# EAGLE library part EPF10K200-PGA599 (library altera)
EPF10K200 FLEX 10K family
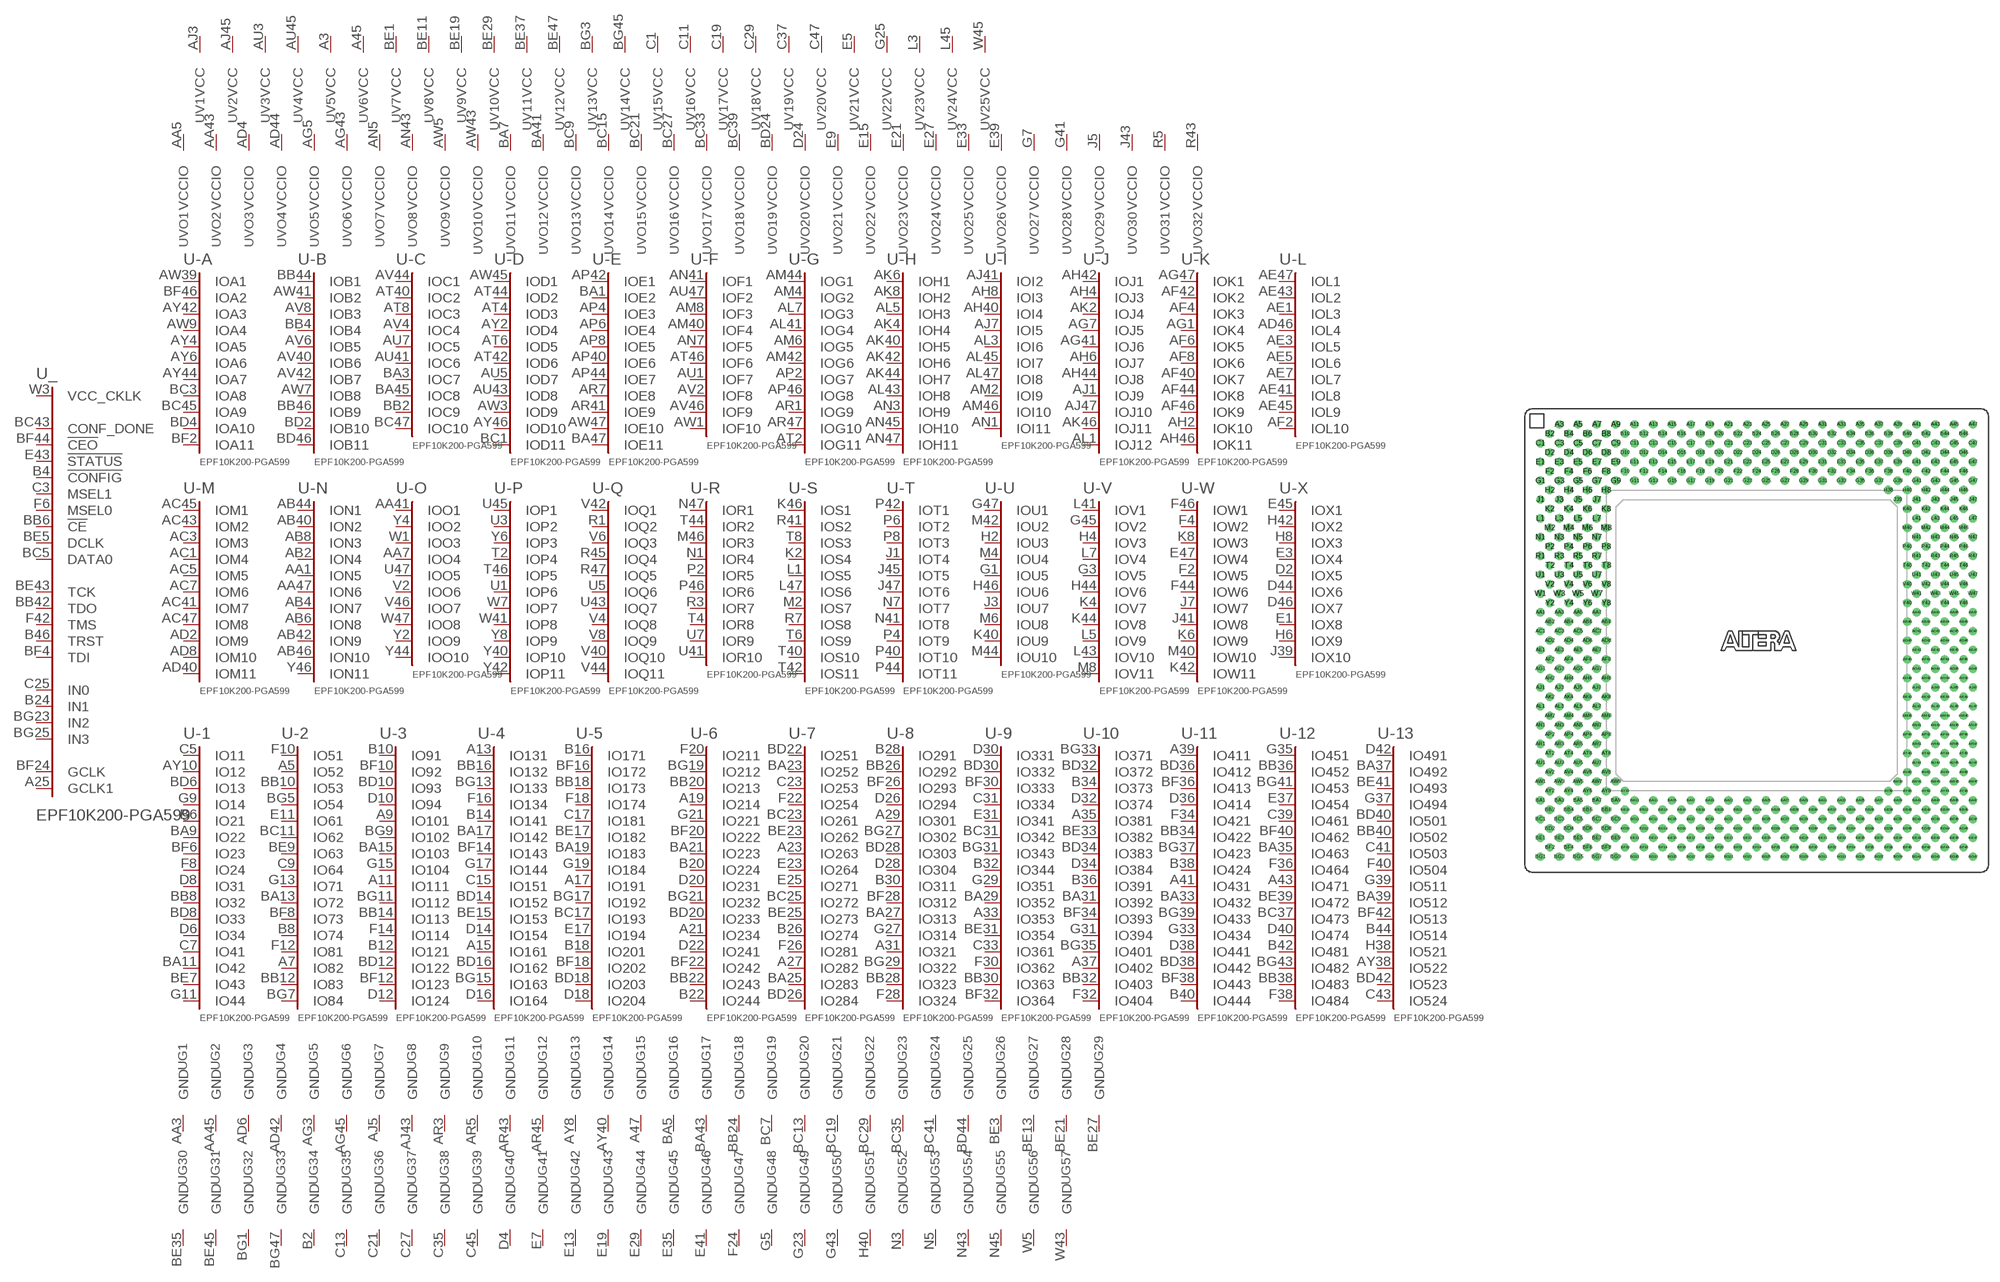
[diagram p34: symbol with the pads of PGA599; footprint PGA599]

Designator prefix U; gates _=200P599C -A=A11-599 -B=B11-599 -C=C10-599 -D=D11-599 -E=E11-599 -F=F10-599 -G=G11-599 -H=H11-599 -I=I11-599 -J=J12-599 -K=K11-599 -L=L10-599 -M=M11-599 -N=N11-599 -O=O10-599 -P=P11-599 -Q=Q11-599 -R=R10-599 -S=S11-599 -T=T11-599 -U=U10-599 -V=V11-599 -W=W11-599 -X=X10-599 -1=IO44 -2=IO84 -3=IO124 -4=IO164 -5=IO204 -6=IO244 -7=IO284 -8=IO324 -9=IO364 -10=IO404 -11=IO444 -12=IO484 -13=IO524 G1=GND G2=GND G3=GND G4=GND G5=GND G6=GND G7=GND G8=GND G9=GND G10=GND G11=GND G12=GND G13=GND G14=GND G15=GND G16=GND G17=GND G18=GND G19=GND G20=GND G21=GND G22=GND G23=GND G24=GND G25=GND G26=GND G27=GND G28=GND G29=GND G30=GND G31=GND G32=GND G33=GND G34=GND G35=GND G36=GND G37=GND G38=GND G39=GND G40=GND G41=GND G42=GND G43=GND G44=GND G45=GND G46=GND G47=GND G48=GND G49=GND G50=GND G51=GND G52=GND G53=GND G54=GND G55=GND G56=GND G57=GND V1=VCCINT V2=VCCINT V3=VCCINT V4=VCCINT V5=VCCINT V6=VCCINT V7=VCCINT V8=VCCINT V9=VCCINT V10=VCCINT V11=VCCINT V12=VCCINT V13=VCCINT V14=VCCINT V15=VCCINT V16=VCCINT V17=VCCINT V18=VCCINT V19=VCCINT V20=VCCINT V21=VCCINT V22=VCCINT V23=VCCINT V24=VCCINT V25=VCCINT VO1=VCCIO VO2=VCCIO VO3=VCCIO VO4=VCCIO VO5=VCCIO VO6=VCCIO VO7=VCCIO VO8=VCCIO VO9=VCCIO VO10=VCCIO VO11=VCCIO VO12=VCCIO VO13=VCCIO VO14=VCCIO VO15=VCCIO VO16=VCCIO VO17=VCCIO VO18=VCCIO VO19=VCCIO VO20=VCCIO VO21=VCCIO VO22=VCCIO VO23=VCCIO VO24=VCCIO VO25=VCCIO VO26=VCCIO VO27=VCCIO VO28=VCCIO VO29=VCCIO VO30=VCCIO VO31=VCCIO VO32=VCCIO

## EPF10K200-PGA599  [PGA599]
A3  V5:VCC  pwr
A5  -2:IO52
A7  -2:IO82
A9  -3:IO101
A11  -3:IO111
A13  -4:IO131
A15  -4:IO161
A17  -5:IO191
A19  -6:IO214
A21  -6:IO234
A23  -7:IO263
A25  _:GCLK1  in
A27  -7:IO282
A29  -8:IO301
A31  -8:IO321
A33  -9:IO353
A35  -10:IO381
A37  -10:IO402
A39  -11:IO411
A41  -11:IO431
A43  -12:IO471
A45  V6:VCC  pwr
A47  G15:GND  pwr
AA1  -N:ION5
AA3  G1:GND  pwr
AA5  VO1:VCCIO  pwr
AA7  -O:IOO4
AA41  -O:IOO1
AA43  VO2:VCCIO  pwr
AA45  G2:GND  pwr
AA47  -N:ION6
AB2  -N:ION4
AB4  -N:ION7
AB6  -N:ION8
AB8  -N:ION3
AB40  -N:ION2
AB42  -N:ION9
AB44  -N:ION1
AB46  -N:ION10
AC1  -M:IOM4
AC3  -M:IOM3
AC5  -M:IOM5
AC7  -M:IOM6
AC41  -M:IOM7
AC43  -M:IOM2
AC45  -M:IOM1
AC47  -M:IOM8
AD2  -M:IOM9
AD4  VO3:VCCIO  pwr
AD6  G3:GND  pwr
AD8  -M:IOM10
AD40  -M:IOM11
AD42  G4:GND  pwr
AD44  VO4:VCCIO  pwr
AD46  -L:IOL4
AE1  -L:IOL3
AE3  -L:IOL5
AE5  -L:IOL6
AE7  -L:IOL7
AE41  -L:IOL8
AE43  -L:IOL2
AE45  -L:IOL9
AE47  -L:IOL1
AF2  -L:IOL10
AF4  -K:IOK3
AF6  -K:IOK5
AF8  -K:IOK6
AF40  -K:IOK7
AF42  -K:IOK2
AF44  -K:IOK8
AF46  -K:IOK9
AG1  -K:IOK4
AG3  G5:GND  pwr
AG5  VO5:VCCIO  pwr
AG7  -J:IOJ5
AG41  -J:IOJ6
AG43  VO6:VCCIO  pwr
AG45  G6:GND  pwr
AG47  -K:IOK1
AH2  -K:IOK10
AH4  -J:IOJ3
AH6  -J:IOJ7
AH8  -I:IOI3
AH40  -I:IOI4
AH42  -J:IOJ1
AH44  -J:IOJ8
AH46  -K:IOK11
AJ1  -J:IOJ9
AJ3  V1:VCC  pwr
AJ5  G7:GND  pwr
AJ7  -I:IOI5
AJ41  -I:IOI2
AJ43  G8:GND  pwr
AJ45  V2:VCC  pwr
AJ47  -J:IOJ10
AK2  -J:IOJ4
AK4  -H:IOH4
AK6  -H:IOH1
AK8  -H:IOH2
AK40  -H:IOH5
AK42  -H:IOH6
AK44  -H:IOH7
AK46  -J:IOJ11
AL1  -J:IOJ12
AL3  -I:IOI6
AL5  -H:IOH3
AL7  -G:IOG3
AL41  -G:IOG4
AL43  -H:IOH8
AL45  -I:IOI7
AL47  -I:IOI8
AM2  -I:IOI9
AM4  -G:IOG2
AM6  -G:IOG5
AM8  -F:IOF3
AM40  -F:IOF4
AM42  -G:IOG6
AM44  -G:IOG1
AM46  -I:IOI10
AN1  -I:IOI11
AN3  -H:IOH9
AN5  VO7:VCCIO  pwr
AN7  -F:IOF5
AN41  -F:IOF1
AN43  VO8:VCCIO  pwr
AN45  -H:IOH10
AN47  -H:IOH11
AP2  -G:IOG7
AP4  -E:IOE3
AP6  -E:IOE4
AP8  -E:IOE5
AP40  -E:IOE6
AP42  -E:IOE1
AP44  -E:IOE7
AP46  -G:IOG8
AR1  -G:IOG9
AR3  G9:GND  pwr
AR5  G10:GND  pwr
AR7  -E:IOE8
AR41  -E:IOE9
AR43  G11:GND  pwr
AR45  G12:GND  pwr
AR47  -G:IOG10
AT2  -G:IOG11
AT4  -D:IOD3
AT6  -D:IOD5
AT8  -C:IOC3
AT40  -C:IOC2
AT42  -D:IOD6
AT44  -D:IOD2
AT46  -F:IOF6
AU1  -F:IOF7
AU3  V3:VCC  pwr
AU5  -D:IOD7
AU7  -C:IOC5
AU41  -C:IOC6
AU43  -D:IOD8
AU45  V4:VCC  pwr
AU47  -F:IOF2
AV2  -F:IOF8
AV4  -C:IOC4
AV6  -B:IOB5
AV8  -B:IOB3
AV40  -B:IOB6
AV42  -B:IOB7
AV44  -C:IOC1
AV46  -F:IOF9
AW1  -F:IOF10
AW3  -D:IOD9
AW5  VO9:VCCIO  pwr
AW7  -B:IOB8
AW9  -A:IOA4
AW39  -A:IOA1
AW41  -B:IOB2
AW43  VO10:VCCIO  pwr
AW45  -D:IOD1
AW47  -E:IOE10
AY2  -D:IOD4
AY4  -A:IOA5
AY6  -A:IOA6
AY8  G13:GND  pwr
AY10  -1:IO12
AY38  -13:IO522
AY40  G14:GND  pwr
AY42  -A:IOA3
AY44  -A:IOA7
AY46  -D:IOD10
B2  G34:GND  pwr
B4  _:!CONFIG!  in
B6  -1:IO21
B8  -2:IO74
B10  -3:IO91
B12  -3:IO121
B14  -4:IO141
B16  -5:IO171
B18  -5:IO201
B20  -6:IO224
B22  -6:IO244
B24  _:IN1  in
B26  -7:IO274
B28  -8:IO291
B30  -8:IO311
B32  -9:IO344
B34  -10:IO373
B36  -10:IO391
B38  -11:IO424
B40  -11:IO444
B42  -12:IO481
B44  -13:IO514
B46  _:TRST
BA1  -E:IOE2
BA3  -C:IOC7
BA5  G16:GND  pwr
BA7  VO11:VCCIO  pwr
BA9  -1:IO22
BA11  -1:IO42
BA13  -2:IO72
BA15  -3:IO103
BA17  -4:IO142
BA19  -5:IO183
BA21  -6:IO223
BA23  -7:IO252
BA25  -7:IO283
BA27  -8:IO313
BA29  -9:IO352
BA31  -10:IO392
BA33  -11:IO432
BA35  -12:IO463
BA37  -13:IO492
BA39  -13:IO512
BA41  VO12:VCCIO  pwr
BA43  G17:GND  pwr
BA45  -C:IOC8
BA47  -E:IOE11
BB2  -C:IOC9
BB4  -B:IOB4
BB6  _:!CE!  in
BB8  -1:IO32
BB10  -2:IO53
BB12  -2:IO83
BB14  -3:IO113
BB16  -4:IO132
BB18  -5:IO173
BB20  -6:IO213
BB22  -6:IO243
BB24  G18:GND  pwr
BB26  -8:IO292
BB28  -8:IO323
BB30  -9:IO363
BB32  -10:IO403
BB34  -11:IO422
BB36  -12:IO452
BB38  -12:IO483
BB40  -13:IO502
BB42  _:TDO
BB44  -B:IOB1
BB46  -B:IOB9
BC1  -D:IOD11
BC3  -A:IOA8
BC5  _:DATA0  in
BC7  G19:GND  pwr
BC9  VO13:VCCIO  pwr
BC11  -2:IO62
BC13  G20:GND  pwr
BC15  VO14:VCCIO  pwr
BC17  -5:IO193
BC19  G21:GND  pwr
BC21  VO15:VCCIO  pwr
BC23  -7:IO261
BC25  -7:IO272
BC27  VO16:VCCIO  pwr
BC29  G22:GND  pwr
BC31  -9:IO342
BC33  VO17:VCCIO  pwr
BC35  G23:GND  pwr
BC37  -12:IO473
BC39  VO18:VCCIO  pwr
BC41  G24:GND  pwr
BC43  _:CONF_DONE  in
BC45  -A:IOA9
BC47  -C:IOC10
BD2  -B:IOB10
BD4  -A:IOA10
BD6  -1:IO13
BD8  -1:IO33
BD10  -3:IO93
BD12  -3:IO122
BD14  -4:IO152
BD16  -4:IO162
BD18  -5:IO203
BD20  -6:IO233
BD22  -7:IO251
BD24  VO19:VCCIO  pwr
BD26  -7:IO284
BD28  -8:IO303
BD30  -9:IO332
BD32  -10:IO372
BD34  -10:IO383
BD36  -11:IO412
BD38  -11:IO442
BD40  -13:IO501
BD42  -13:IO523
BD44  G25:GND  pwr
BD46  -B:IOB11
BE1  V7:VCC  pwr
BE3  G26:GND  pwr
BE5  _:DCLK  in
BE7  -1:IO43
BE9  -2:IO63
BE11  V8:VCC  pwr
BE13  G27:GND  pwr
BE15  -4:IO153
BE17  -5:IO182
BE19  V9:VCC  pwr
BE21  G28:GND  pwr
BE23  -7:IO262
BE25  -7:IO273
BE27  G29:GND  pwr
BE29  V10:VCC  pwr
BE31  -9:IO354
BE33  -10:IO382
BE35  G30:GND  pwr
BE37  V11:VCC  pwr
BE39  -12:IO472
BE41  -13:IO493
BE43  _:TCK
BE45  G31:GND  pwr
BE47  V12:VCC  pwr
BF2  -A:IOA11
BF4  _:TDI
BF6  -1:IO23
BF8  -2:IO73
BF10  -3:IO92
BF12  -3:IO123
BF14  -4:IO143
BF16  -5:IO172
BF18  -5:IO202
BF20  -6:IO222
BF22  -6:IO242
BF24  _:GCLK  in
BF26  -8:IO293
BF28  -8:IO312
BF30  -9:IO333
BF32  -9:IO364
BF34  -10:IO393
BF36  -11:IO413
BF38  -11:IO443
BF40  -12:IO462
BF42  -13:IO513
BF44  _:!CEO!  in
BF46  -A:IOA2
BG1  G32:GND  pwr
BG3  V13:VCC  pwr
BG5  -2:IO54
BG7  -2:IO84
BG9  -3:IO102
BG11  -3:IO112
BG13  -4:IO133
BG15  -4:IO163
BG17  -5:IO192
BG19  -6:IO212
BG21  -6:IO232
BG23  _:IN2  in
BG25  _:IN3  in
BG27  -8:IO302
BG29  -8:IO322
BG31  -9:IO343
BG33  -10:IO371
BG35  -10:IO401
BG37  -11:IO423
BG39  -11:IO433
BG41  -12:IO453
BG43  -12:IO482
BG45  V14:VCC  pwr
BG47  G33:GND  pwr
C1  V15:VCC  pwr
C3  _:MSEL1  in
C5  -1:IO11
C7  -1:IO41
C9  -2:IO64
C11  V16:VCC  pwr
C13  G35:GND  pwr
C15  -4:IO151
C17  -5:IO181
C19  V17:VCC  pwr
C21  G36:GND  pwr
C23  -7:IO253
C25  _:IN0  in
C27  G37:GND  pwr
C29  V18:VCC  pwr
C31  -9:IO334
C33  -9:IO361
C35  G38:GND  pwr
C37  V19:VCC  pwr
C39  -12:IO461
C41  -13:IO503
C43  -13:IO524
C45  G39:GND  pwr
C47  V20:VCC  pwr
D2  -X:IOX5
D4  G40:GND  pwr
D6  -1:IO34
D8  -1:IO31
D10  -3:IO94
D12  -3:IO124
D14  -4:IO154
D16  -4:IO164
D18  -5:IO204
D20  -6:IO231
D22  -6:IO241
D24  VO20:VCCIO  pwr
D26  -8:IO294
D28  -8:IO304
D30  -9:IO331
D32  -10:IO374
D34  -10:IO384
D36  -11:IO414
D38  -11:IO441
D40  -12:IO474
D42  -13:IO491
D44  -X:IOX6
D46  -X:IOX7
E1  -X:IOX8
E3  -X:IOX4
E5  V21:VCC  pwr
E7  G41:GND  pwr
E9  VO21:VCCIO  pwr
E11  -2:IO61
E13  G42:GND  pwr
E15  VO22:VCCIO  pwr
E17  -5:IO194
E19  G43:GND  pwr
E21  VO23:VCCIO  pwr
E23  -7:IO264
E25  -7:IO271
E27  VO24:VCCIO  pwr
E29  G44:GND  pwr
E31  -9:IO341
E33  VO25:VCCIO  pwr
E35  G45:GND  pwr
E37  -12:IO454
E39  VO26:VCCIO  pwr
E41  G46:GND  pwr
E43  _:!STATUS!  in
E45  -X:IOX1
E47  -W:IOW4
F2  -W:IOW5
F4  -W:IOW2
F6  _:MSEL0  in
F8  -1:IO24
F10  -2:IO51
F12  -2:IO81
F14  -3:IO114
F16  -4:IO134
F18  -5:IO174
F20  -6:IO211
F22  -7:IO254
F24  G47:GND  pwr
F26  -7:IO281
F28  -8:IO324
F30  -9:IO362
F32  -10:IO404
F34  -11:IO421
F36  -12:IO464
F38  -12:IO484
F40  -13:IO504
F42  _:TMS
F44  -W:IOW6
F46  -W:IOW1
G1  -U:IOU5
G3  -V:IOV5
G5  G48:GND  pwr
G7  VO27:VCCIO  pwr
G9  -1:IO14
G11  -1:IO44
G13  -2:IO71
G15  -3:IO104
G17  -4:IO144
G19  -5:IO184
G21  -6:IO221
G23  G49:GND  pwr
G25  V22:VCC  pwr
G27  -8:IO314
G29  -9:IO351
G31  -10:IO394
G33  -11:IO434
G35  -12:IO451
G37  -13:IO494
G39  -13:IO511
G41  VO28:VCCIO  pwr
G43  G50:GND  pwr
G45  -V:IOV2
G47  -U:IOU1
H2  -U:IOU3
H4  -V:IOV3
H6  -X:IOX9
H8  -X:IOX3
H38  -13:IO521
H40  G51:GND  pwr
H42  -X:IOX2
H44  -V:IOV6
H46  -U:IOU6
J1  -T:IOT4
J3  -U:IOU7
J5  VO29:VCCIO  pwr
J7  -W:IOW7
J39  -X:IOX10
J41  -W:IOW8
J43  VO30:VCCIO  pwr
J45  -T:IOT5
J47  -T:IOT6
K2  -S:IOS4
K4  -V:IOV7
K6  -W:IOW9
K8  -W:IOW3
K40  -U:IOU9
K42  -W:IOW11
K44  -V:IOV8
K46  -S:IOS1
L1  -S:IOS5
L3  V23:VCC  pwr
L5  -V:IOV9
L7  -V:IOV4
L41  -V:IOV1
L43  -V:IOV10
L45  V24:VCC  pwr
L47  -S:IOS6
M2  -S:IOS7
M4  -U:IOU4
M6  -U:IOU8
M8  -V:IOV11
M40  -W:IOW10
M42  -U:IOU2
M44  -U:IOU10
M46  -R:IOR3
N1  -R:IOR4
N3  G52:GND  pwr
N5  G53:GND  pwr
N7  -T:IOT7
N41  -T:IOT8
N43  G54:GND  pwr
N45  G55:GND  pwr
N47  -R:IOR1
P2  -R:IOR5
P4  -T:IOT9
P6  -T:IOT2
P8  -T:IOT3
P40  -T:IOT10
P42  -T:IOT1
P44  -T:IOT11
P46  -R:IOR6
R1  -Q:IOQ2
R3  -R:IOR7
R5  VO31:VCCIO  pwr
R7  -S:IOS8
R41  -S:IOS2
R43  VO32:VCCIO  pwr
R45  -Q:IOQ4
R47  -Q:IOQ5
T2  -P:IOP4
T4  -R:IOR8
T6  -S:IOS9
T8  -S:IOS3
T40  -S:IOS10
T42  -S:IOS11
T44  -R:IOR2
T46  -P:IOP5
U1  -P:IOP6
U3  -P:IOP2
U5  -Q:IOQ6
U7  -R:IOR9
U41  -R:IOR10
U43  -Q:IOQ7
U45  -P:IOP1
U47  -O:IOO5
V2  -O:IOO6
V4  -Q:IOQ8
V6  -Q:IOQ3
V8  -Q:IOQ9
V40  -Q:IOQ10
V42  -Q:IOQ1
V44  -Q:IOQ11
V46  -O:IOO7
W1  -O:IOO3
W3  _:VCC_CKLK  pas
W5  G56:GND  pwr
W7  -P:IOP7
W41  -P:IOP8
W43  G57:GND  pwr
W45  V25:VCC  pwr
W47  -O:IOO8
Y2  -O:IOO9
Y4  -O:IOO2
Y6  -P:IOP3
Y8  -P:IOP9
Y40  -P:IOP10
Y42  -P:IOP11
Y44  -O:IOO10
Y46  -N:ION11

## Footprint PGA599 (pad centres in mm)
Pin Grid Array
drill 0.61 pad 1.016: A3 -26.67,29.21; A5 -24.13,29.21; A7 -21.59,29.21; A9 -19.05,29.21; A11 -16.51,29.21; A13 -13.97,29.21; A15 -11.43,29.21; A17 -8.89,29.21; A19 -6.35,29.21; A21 -3.81,29.21; A23 -1.27,29.21; A25 1.27,29.21; A27 3.81,29.21; A29 6.35,29.21; A31 8.89,29.21; A33 11.43,29.21; A35 13.97,29.21; A37 16.51,29.21; A39 19.05,29.21; A41 21.59,29.21; A43 24.13,29.21; A45 26.67,29.21; A47 29.21,29.21; AA1 -29.21,3.81; AA3 -26.67,3.81; AA5 -24.13,3.81; AA7 -21.59,3.81; AA41 21.59,3.81; AA43 24.13,3.81; AA45 26.67,3.81; AA47 29.21,3.81; AB2 -27.94,2.54; AB4 -25.4,2.54; AB6 -22.86,2.54; AB8 -20.32,2.54; AB40 20.32,2.54; AB42 22.86,2.54; AB44 25.4,2.54; AB46 27.94,2.54; AC1 -29.21,1.27; AC3 -26.67,1.27; AC5 -24.13,1.27; AC7 -21.59,1.27; AC41 21.59,1.27; AC43 24.13,1.27; AC45 26.67,1.27; AC47 29.21,1.27; AD2 -27.94,0; AD4 -25.4,0; AD6 -22.86,0; AD8 -20.32,0; AD40 20.32,0; AD42 22.86,0; AD44 25.4,0; AD46 27.94,0; AE1 -29.21,-1.27; AE3 -26.67,-1.27; AE5 -24.13,-1.27; AE7 -21.59,-1.27; AE41 21.59,-1.27; AE43 24.13,-1.27; AE45 26.67,-1.27; AE47 29.21,-1.27; AF2 -27.94,-2.54; AF4 -25.4,-2.54; AF6 -22.86,-2.54; AF8 -20.32,-2.54; AF40 20.32,-2.54; AF42 22.86,-2.54; AF44 25.4,-2.54; AF46 27.94,-2.54; AG1 -29.21,-3.81; AG3 -26.67,-3.81; AG5 -24.13,-3.81; AG7 -21.59,-3.81; AG41 21.59,-3.81; AG43 24.13,-3.81; AG45 26.67,-3.81; AG47 29.21,-3.81; AH2 -27.94,-5.08; AH4 -25.4,-5.08; AH6 -22.86,-5.08; AH8 -20.32,-5.08; AH40 20.32,-5.08; AH42 22.86,-5.08; AH44 25.4,-5.08; AH46 27.94,-5.08; AJ1 -29.21,-6.35; AJ3 -26.67,-6.35; AJ5 -24.13,-6.35; AJ7 -21.59,-6.35; AJ41 21.59,-6.35; AJ43 24.13,-6.35; AJ45 26.67,-6.35; AJ47 29.21,-6.35; AK2 -27.94,-7.62; AK4 -25.4,-7.62; AK6 -22.86,-7.62; AK8 -20.32,-7.62; AK40 20.32,-7.62; AK42 22.86,-7.62; AK44 25.4,-7.62; AK46 27.94,-7.62; AL1 -29.21,-8.89; AL3 -26.67,-8.89; AL5 -24.13,-8.89; AL7 -21.59,-8.89; AL41 21.59,-8.89; AL43 24.13,-8.89; AL45 26.67,-8.89; AL47 29.21,-8.89; AM2 -27.94,-10.16; AM4 -25.4,-10.16; AM6 -22.86,-10.16; AM8 -20.32,-10.16; AM40 20.32,-10.16; AM42 22.86,-10.16; AM44 25.4,-10.16; AM46 27.94,-10.16; AN1 -29.21,-11.43; AN3 -26.67,-11.43; AN5 -24.13,-11.43; AN7 -21.59,-11.43; AN41 21.59,-11.43; AN43 24.13,-11.43; AN45 26.67,-11.43; AN47 29.21,-11.43; AP2 -27.94,-12.7; AP4 -25.4,-12.7; AP6 -22.86,-12.7; AP8 -20.32,-12.7; AP40 20.32,-12.7; AP42 22.86,-12.7; AP44 25.4,-12.7; AP46 27.94,-12.7; AR1 -29.21,-13.97; AR3 -26.67,-13.97; AR5 -24.13,-13.97; AR7 -21.59,-13.97; AR41 21.59,-13.97; AR43 24.13,-13.97; AR45 26.67,-13.97; AR47 29.21,-13.97; AT2 -27.94,-15.24; AT4 -25.4,-15.24; AT6 -22.86,-15.24; AT8 -20.32,-15.24; AT40 20.32,-15.24; AT42 22.86,-15.24; AT44 25.4,-15.24; AT46 27.94,-15.24; AU1 -29.21,-16.51; AU3 -26.67,-16.51; AU5 -24.13,-16.51; AU7 -21.59,-16.51; AU41 21.59,-16.51; AU43 24.13,-16.51; AU45 26.67,-16.51; AU47 29.21,-16.51; AV2 -27.94,-17.78; AV4 -25.4,-17.78; AV6 -22.86,-17.78; AV8 -20.32,-17.78; AV40 20.32,-17.78; AV42 22.86,-17.78; AV44 25.4,-17.78; AV46 27.94,-17.78; AW1 -29.21,-19.05; AW3 -26.67,-19.05; AW5 -24.13,-19.05; AW7 -21.59,-19.05; AW9 -19.05,-19.05; AW39 19.05,-19.05; AW41 21.59,-19.05; AW43 24.13,-19.05; AW45 26.67,-19.05; AW47 29.21,-19.05; AY2 -27.94,-20.32; AY4 -25.4,-20.32; AY6 -22.86,-20.32; AY8 -20.32,-20.32; AY10 -17.78,-20.32; AY38 17.78,-20.32; AY40 20.32,-20.32; AY42 22.86,-20.32; AY44 25.4,-20.32; AY46 27.94,-20.32; B2 -27.94,27.94; B4 -25.4,27.94; B6 -22.86,27.94; B8 -20.32,27.94; B10 -17.78,27.94; B12 -15.24,27.94; B14 -12.7,27.94; B16 -10.16,27.94; B18 -7.62,27.94; B20 -5.08,27.94; B22 -2.54,27.94; B24 0,27.94; B26 2.54,27.94; B28 5.08,27.94; B30 7.62,27.94; B32 10.16,27.94; B34 12.7,27.94; B36 15.24,27.94; B38 17.78,27.94; B40 20.32,27.94; B42 22.86,27.94; B44 25.4,27.94; B46 27.94,27.94; BA1 -29.21,-21.59; BA3 -26.67,-21.59; BA5 -24.13,-21.59; BA7 -21.59,-21.59; BA9 -19.05,-21.59; BA11 -16.51,-21.59; BA13 -13.97,-21.59; BA15 -11.43,-21.59; BA17 -8.89,-21.59; BA19 -6.35,-21.59; BA21 -3.81,-21.59; BA23 -1.27,-21.59; BA25 1.27,-21.59; BA27 3.81,-21.59; BA29 6.35,-21.59; BA31 8.89,-21.59; BA33 11.43,-21.59; BA35 13.97,-21.59; BA37 16.51,-21.59; BA39 19.05,-21.59; BA41 21.59,-21.59; BA43 24.13,-21.59; BA45 26.67,-21.59; BA47 29.21,-21.59; BB2 -27.94,-22.86; BB4 -25.4,-22.86; BB6 -22.86,-22.86; BB8 -20.32,-22.86; BB10 -17.78,-22.86; BB12 -15.24,-22.86; BB14 -12.7,-22.86; BB16 -10.16,-22.86; BB18 -7.62,-22.86; BB20 -5.08,-22.86; BB22 -2.54,-22.86; BB24 0,-22.86; BB26 2.54,-22.86; BB28 5.08,-22.86; BB30 7.62,-22.86; BB32 10.16,-22.86; BB34 12.7,-22.86; BB36 15.24,-22.86; BB38 17.78,-22.86; BB40 20.32,-22.86; BB42 22.86,-22.86; BB44 25.4,-22.86; BB46 27.94,-22.86; BC1 -29.21,-24.13; BC3 -26.67,-24.13; BC5 -24.13,-24.13; BC7 -21.59,-24.13; BC9 -19.05,-24.13; BC11 -16.51,-24.13; BC13 -13.97,-24.13; BC15 -11.43,-24.13; BC17 -8.89,-24.13; BC19 -6.35,-24.13; BC21 -3.81,-24.13; BC23 -1.27,-24.13; BC25 1.27,-24.13; BC27 3.81,-24.13; BC29 6.35,-24.13; BC31 8.89,-24.13; BC33 11.43,-24.13; BC35 13.97,-24.13; BC37 16.51,-24.13; BC39 19.05,-24.13; BC41 21.59,-24.13; BC43 24.13,-24.13; BC45 26.67,-24.13; BC47 29.21,-24.13; BD2 -27.94,-25.4; BD4 -25.4,-25.4; BD6 -22.86,-25.4; BD8 -20.32,-25.4; BD10 -17.78,-25.4; BD12 -15.24,-25.4; BD14 -12.7,-25.4; BD16 -10.16,-25.4; BD18 -7.62,-25.4; BD20 -5.08,-25.4; BD22 -2.54,-25.4; BD24 0,-25.4; BD26 2.54,-25.4; BD28 5.08,-25.4; BD30 7.62,-25.4; BD32 10.16,-25.4; BD34 12.7,-25.4; BD36 15.24,-25.4; BD38 17.78,-25.4; BD40 20.32,-25.4; BD42 22.86,-25.4; BD44 25.4,-25.4; BD46 27.94,-25.4; BE1 -29.21,-26.67; BE3 -26.67,-26.67; BE5 -24.13,-26.67; BE7 -21.59,-26.67; BE9 -19.05,-26.67; BE11 -16.51,-26.67; BE13 -13.97,-26.67; BE15 -11.43,-26.67; BE17 -8.89,-26.67; BE19 -6.35,-26.67; BE21 -3.81,-26.67; BE23 -1.27,-26.67; BE25 1.27,-26.67; BE27 3.81,-26.67; BE29 6.35,-26.67; BE31 8.89,-26.67; BE33 11.43,-26.67; BE35 13.97,-26.67; BE37 16.51,-26.67; BE39 19.05,-26.67; BE41 21.59,-26.67; BE43 24.13,-26.67; BE45 26.67,-26.67; BE47 29.21,-26.67; BF2 -27.94,-27.94; BF4 -25.4,-27.94; BF6 -22.86,-27.94; BF8 -20.32,-27.94; BF10 -17.78,-27.94; BF12 -15.24,-27.94; BF14 -12.7,-27.94; BF16 -10.16,-27.94; BF18 -7.62,-27.94; BF20 -5.08,-27.94; BF22 -2.54,-27.94; BF24 0,-27.94; BF26 2.54,-27.94; BF28 5.08,-27.94; BF30 7.62,-27.94; BF32 10.16,-27.94; BF34 12.7,-27.94; BF36 15.24,-27.94; BF38 17.78,-27.94; BF40 20.32,-27.94; BF42 22.86,-27.94; BF44 25.4,-27.94; BF46 27.94,-27.94; BG1 -29.21,-29.21; BG3 -26.67,-29.21; BG5 -24.13,-29.21; BG7 -21.59,-29.21; BG9 -19.05,-29.21; BG11 -16.51,-29.21; BG13 -13.97,-29.21; BG15 -11.43,-29.21; BG17 -8.89,-29.21; BG19 -6.35,-29.21; BG21 -3.81,-29.21; BG23 -1.27,-29.21; BG25 1.27,-29.21; BG27 3.81,-29.21; BG29 6.35,-29.21; BG31 8.89,-29.21; BG33 11.43,-29.21; BG35 13.97,-29.21; BG37 16.51,-29.21; BG39 19.05,-29.21; BG41 21.59,-29.21; BG43 24.13,-29.21; BG45 26.67,-29.21; BG47 29.21,-29.21; C1 -29.21,26.67; C3 -26.67,26.67; C5 -24.13,26.67; C7 -21.59,26.67; C9 -19.05,26.67; C11 -16.51,26.67; C13 -13.97,26.67; C15 -11.43,26.67; C17 -8.89,26.67; C19 -6.35,26.67; C21 -3.81,26.67; C23 -1.27,26.67; C25 1.27,26.67; C27 3.81,26.67; C29 6.35,26.67; C31 8.89,26.67; C33 11.43,26.67; C35 13.97,26.67; C37 16.51,26.67; C39 19.05,26.67; C41 21.59,26.67; C43 24.13,26.67; C45 26.67,26.67; C47 29.21,26.67; D2 -27.94,25.4; D4 -25.4,25.4; D6 -22.86,25.4; D8 -20.32,25.4; D10 -17.78,25.4; D12 -15.24,25.4; D14 -12.7,25.4; D16 -10.16,25.4; D18 -7.62,25.4; D20 -5.08,25.4; D22 -2.54,25.4; D24 0,25.4; D26 2.54,25.4; D28 5.08,25.4; D30 7.62,25.4; D32 10.16,25.4; D34 12.7,25.4; D36 15.24,25.4; D38 17.78,25.4; D40 20.32,25.4; D42 22.86,25.4; D44 25.4,25.4; D46 27.94,25.4; E1 -29.21,24.13; E3 -26.67,24.13; E5 -24.13,24.13; E7 -21.59,24.13; E9 -19.05,24.13; E11 -16.51,24.13; E13 -13.97,24.13; E15 -11.43,24.13; E17 -8.89,24.13; E19 -6.35,24.13; E21 -3.81,24.13; E23 -1.27,24.13; E25 1.27,24.13; E27 3.81,24.13; E29 6.35,24.13; E31 8.89,24.13; E33 11.43,24.13; E35 13.97,24.13; E37 16.51,24.13; E39 19.05,24.13; E41 21.59,24.13; E43 24.13,24.13; E45 26.67,24.13; E47 29.21,24.13; F2 -27.94,22.86; F4 -25.4,22.86; F6 -22.86,22.86; F8 -20.32,22.86; F10 -17.78,22.86; F12 -15.24,22.86; F14 -12.7,22.86; F16 -10.16,22.86; F18 -7.62,22.86; F20 -5.08,22.86; F22 -2.54,22.86; F24 0,22.86; F26 2.54,22.86; F28 5.08,22.86; F30 7.62,22.86; F32 10.16,22.86; F34 12.7,22.86; F36 15.24,22.86; F38 17.78,22.86; F40 20.32,22.86; F42 22.86,22.86; F44 25.4,22.86; F46 27.94,22.86; G1 -29.21,21.59; G3 -26.67,21.59; G5 -24.13,21.59; G7 -21.59,21.59; G9 -19.05,21.59; G11 -16.51,21.59; G13 -13.97,21.59; G15 -11.43,21.59; G17 -8.89,21.59; G19 -6.35,21.59; G21 -3.81,21.59; G23 -1.27,21.59; G25 1.27,21.59; G27 3.81,21.59; G29 6.35,21.59; G31 8.89,21.59; G33 11.43,21.59; G35 13.97,21.59; G37 16.51,21.59; G39 19.05,21.59; G41 21.59,21.59; G43 24.13,21.59; G45 26.67,21.59; G47 29.21,21.59; H2 -27.94,20.32; H4 -25.4,20.32; H6 -22.86,20.32; H8 -20.32,20.32; H38 17.78,20.32; H40 20.32,20.32; H42 22.86,20.32; H44 25.4,20.32; H46 27.94,20.32; J1 -29.21,19.05; J3 -26.67,19.05; J5 -24.13,19.05; J7 -21.59,19.05; J39 19.05,19.05; J41 21.59,19.05; J43 24.13,19.05; J45 26.67,19.05; J47 29.21,19.05; K2 -27.94,17.78; K4 -25.4,17.78; K6 -22.86,17.78; K8 -20.32,17.78; K40 20.32,17.78; K42 22.86,17.78; K44 25.4,17.78; K46 27.94,17.78; L1 -29.21,16.51; L3 -26.67,16.51; L5 -24.13,16.51; L7 -21.59,16.51; L41 21.59,16.51; L43 24.13,16.51; L45 26.67,16.51; L47 29.21,16.51; M2 -27.94,15.24; M4 -25.4,15.24; M6 -22.86,15.24; M8 -20.32,15.24; M40 20.32,15.24; M42 22.86,15.24; M44 25.4,15.24; M46 27.94,15.24; N1 -29.21,13.97; N3 -26.67,13.97; N5 -24.13,13.97; N7 -21.59,13.97; N41 21.59,13.97; N43 24.13,13.97; N45 26.67,13.97; N47 29.21,13.97; P2 -27.94,12.7; P4 -25.4,12.7; P6 -22.86,12.7; P8 -20.32,12.7; P40 20.32,12.7; P42 22.86,12.7; P44 25.4,12.7; P46 27.94,12.7; R1 -29.21,11.43; R3 -26.67,11.43; R5 -24.13,11.43; R7 -21.59,11.43; R41 21.59,11.43; R43 24.13,11.43; R45 26.67,11.43; R47 29.21,11.43; T2 -27.94,10.16; T4 -25.4,10.16; T6 -22.86,10.16; T8 -20.32,10.16; T40 20.32,10.16; T42 22.86,10.16; T44 25.4,10.16; T46 27.94,10.16; U1 -29.21,8.89; U3 -26.67,8.89; U5 -24.13,8.89; U7 -21.59,8.89; U41 21.59,8.89; U43 24.13,8.89; U45 26.67,8.89; U47 29.21,8.89; V2 -27.94,7.62; V4 -25.4,7.62; V6 -22.86,7.62; V8 -20.32,7.62; V40 20.32,7.62; V42 22.86,7.62; V44 25.4,7.62; V46 27.94,7.62; W1 -29.21,6.35; W3 -26.67,6.35; W5 -24.13,6.35; W7 -21.59,6.35; W41 21.59,6.35; W43 24.13,6.35; W45 26.67,6.35; W47 29.21,6.35; Y2 -27.94,5.08; Y4 -25.4,5.08; Y6 -22.86,5.08; Y8 -20.32,5.08; Y40 20.32,5.08; Y42 22.86,5.08; Y44 25.4,5.08; Y46 27.94,5.08